# EAGLE library part WPME-VDMM_171010501 (library WPME-VDMM)
MagI³C-VDMM Variable Step Down MicroModule Characteristics Low conducted and radiated EMI (compliant to EN55022 class B / CISPR-22 LGA-6EP Very low profile micropackage Ideal for space constrained applications 3 solder cycles supported LGA-8EP Very low profile micropackage Ideal for space constrained applications For direct connection to 24 V industrial voltage network 3 solder cycles supported Applications Point-of-Load DC/DC applications Replacement for linear regulators Interface and microcontroller supply DSP and FPGA power supply auxiliary voltages Portable instruments Battery powered equipment Sensors <https://www.we-online.com/components/media/o109063v209%20VDMM_Group.jpg> Details see: www.we-online.com/en/components/products/MAGIC-VDMM <www.we-online.com/catalog/MAGIC-VDMM/?utm_source=eagle_model&utm_medium=description_link&utm_campaign=eisos_eagle> Created By Ella Wu 2020-04-28 2020 (C) Wurth Elektronik
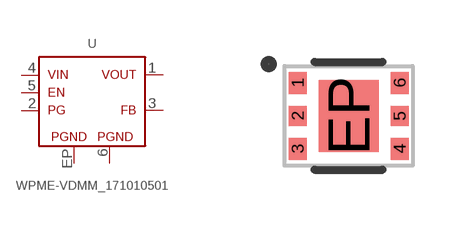
[diagram p2: symbol with the pads of MAGI³C-VDMM_171010501; footprint MAGI³C-VDMM_171010501]

Designator prefix U

## WPME-VDMM_171010501 (DATASHEET-URL: https://www.we-online.com/redexpert/spec/171010501?ae; HEIGHT: 1.6mm; I-OUTPUT: 1A; LENGTH: 3.2mm; MOUNT: SMT; PART-NUMBER: 171010501; TYPE: Open frame; V-INPUT: 2.5-5.5V; V-OUTPUT: 0.8-5.5V; VALUE: 171010501; VERSION: Mode Select; WIDTH: 2.5mm)  [MAGI³C-VDMM_171010501]
1  VOUT  pas
2  PG  pas
3  FB  pas
4  VIN  pas
5  EN  pas
6  PGND  pas
EP  PGND1  pas

## Footprint MAGI³C-VDMM_171010501 (pad centres in mm)
MagI³C-VDMM Variable Step Down MicroModule
smd 0.45 x 0.55: 1 -1.275,0.825; 3 -1.275,-0.825; 4 1.275,-0.825; 6 1.275,0.825
smd 0.45 x 0.5: 2 -1.275,0; 5 1.275,0
smd 1.5 x 1.8: EP 0,0